# Altium schematic symbol library Supernova Diodes.SchLib: 86 symbols
Pins are listed as number, name and electrical type; pins without a type are passive.

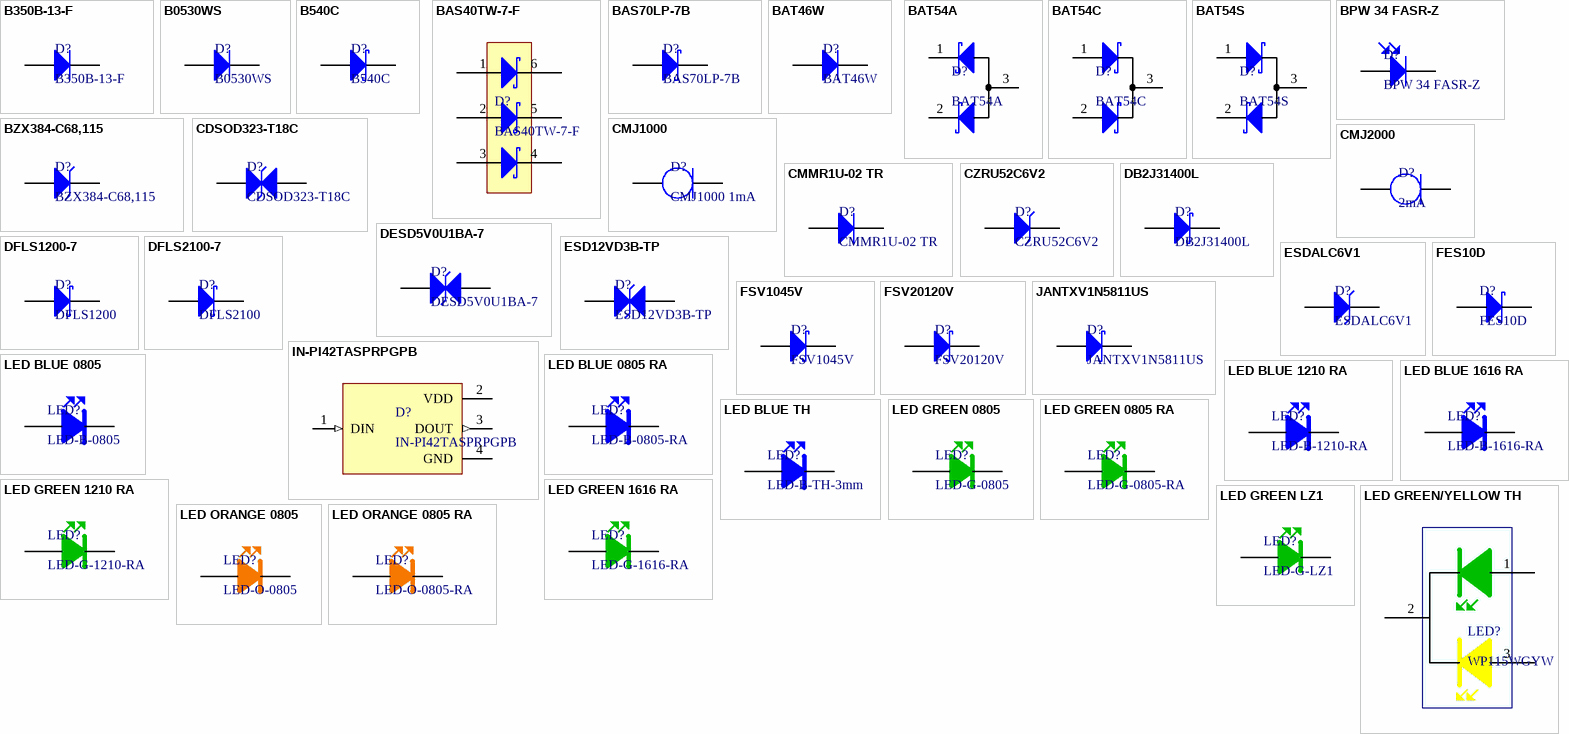
[diagram p0: symbols B350B-13-F to LED ORANGE 0805 RA]

## B350B-13-F
designator D?
Diode 50V 3A; Mass_g: 0.101; Supplier 1: Digi-Key; Supplier Part Number 1: B350B-FDICT-ND; Supplier 2: Mouser; Supplier Part Number 2: 621-B350B-F
footprint SMB (Molded Diode, 2-Leads, Body 4.31x3.62mm, IPC Medium Density)
footprint MELF-JANTX (MELF Diode, 2-Leads, Body 5.40x3.62mm, IPC Medium Density)
pins: 1 K, 2 A

## B0530WS
designator D?
Diode 30V 200mA; Supplier 1: Digi-Key; Supplier Part Number 1: B0530WSRRGCT-ND; Supplier 2: Digi-Key; Supplier Part Number 2: 1727-5197-1-ND; Supplier 3: Digi-Key; Supplier Part Number 3: 1727-3866-1-ND
footprint SOD323 (Footprint not found)
pins: 1 K, 2 A

## B540C
designator D?
Diode 40V 5A; Supplier 1: Digi-Key; Supplier Part Number 1: B540C-FDICT-ND; Supplier 2: Digi-Key; Supplier Part Number 2: SK54L-TPMSCT-ND
footprint SMC (Molded Diode, 2-Leads, Body 6.86x5.91mm, IPC Medium Density)
pins: 1 K, 2 A

## BAS40TW-7-F
designator D?
Diode Triple 200mA 40V; Supplier 1: Digi-Key; Supplier 2: Digi-Key; Supplier Part Number 2: BAS40TW-TPCT-ND; Supplier Part Number 1: BAS40TW-FDICT-ND
footprint SOT363 (TSOP, 6-Leads, Body 2.00x1.25mm, Pitch 0.65mm, IPC Medium Density)
pins: 1, 2 A, 3 A, 4 K, 5, 6 K

## BAS70LP-7B
designator D?
Diode 70V 70mA; Supplier 1: Digi-Key; Supplier 2: Mouser; Supplier Part Number 1: BAS70LP-7BDICT-ND; Supplier Part Number 2: 621-BAS70LP-7B
footprint SOD882 (Footprint not found)
pins: 1 K, 2 A

## BAT46W
designator D?
Diode 100V 150mA; Supplier 1: Avnet; Supplier Part Number 1: BAT46WQ-7-F; Supplier 2: Arrow Electronics; Supplier Part Number 2: BAT46W-E3-08
footprint SOD123
pins: 1 K, 2 A

## BAT54A
designator D?
Diode Pair common anode; Supplier 1: Digi-Key; Supplier Part Number 1: 497-7161-1-ND; Supplier 2: Digi-Key; Supplier Part Number 2: 1655-1411-1-ND
footprint SOT23-3 (Footprint not found)
pins: 1 A, 2 A, 3 K

## BAT54C
designator D?
Diode Pair common cathode; Supplier 1: Digi-Key; Supplier Part Number 1: 497-3786-1-ND; Supplier 2: Digi-Key; Supplier Part Number 2: BAT54CQ-7-FDICT-ND; Supplier 3: Mouser; Supplier Part Number 3: 621-BAT54CQ-7-F; Supplier 4: Mouser; Supplier Part Number 4: 863-SBAT54CLT1G; Supplier 5: Digi-Key; Supplier Part Number 5: SBAT54CLT1GOSCT-ND; Supplier 6: Mouser; Supplier Part Number 6: 78-BAT54C-HE3-08; Supplier 7: Digi-Key; Supplier Part Number 7: 112-BAT54C-HE3-08CT-ND
footprint SOT23-3 (Footprint not found)
pins: 1 A, 2 A, 3 K

## BAT54S
designator D?
Diode Pair series; Supplier 1: Digi-Key; Supplier 2: Digi-Key; Supplier Part Number 1: 497-2522-1-ND; Supplier Part Number 2: 497-14153-1-ND
footprint SOT23-3 (Footprint not found)
pins: 1 A, 2 A, 3 K

## BPW 34 FASR-Z
designator D?
Diode PIN photodiode; Supplier 1: Digi-Key; Supplier 2: Mouser; Supplier Part Number 1: 475-1346-1-ND; Supplier Part Number 2: 720-BPW34FASR-Z
footprint BPW 34 (TSOP, 2-Leads, Body 3.85x4.40mm, Pitch 2.54mm, IPC Medium Density)
pins: 1 K, 2 A

## BZX384-C68,115
designator D?
Diode 68V zener; Mass_g: 0.00465; Supplier 1: Digi-Key; Supplier Part Number 1: 1727-1649-1-ND; Supplier 2: Digi-Key; Supplier Part Number 2: 1727-3666-1-ND; Supplier 3: Digi-Key; Supplier Part Number 3: 1727-SZMM3Z68VT1GXCT-ND; Supplier 4: Newark; Supplier Part Number 4: 37K9902; Supplier 5: Mouser; Supplier Part Number 5: 771-BZX384-C68T/R; Supplier 6: Newark; Supplier Part Number 6: 38AJ4324
footprint SOD323 (TSOP, 2-Leads, Body 1.30x1.75mm, Pitch 0.65mm, IPC Medium Density)
pins: 1 K, 2 A

## CDSOD323-T18C
designator D?
Diode 18V TVS; Supplier 1: Digi-Key; Supplier Part Number 1: CDSOD323-T18CT-ND; Supplier 2: Digi-Key; Supplier Part Number 2: F10390CT-ND
footprint SOD323 (Footprint not found)
pins: 1 K, 2 A

## CMJ1000
designator D?, comment CMJ1000 1mA
Diode 1.1mA Constant Current; Mass_g: 0.00834; Supplier 1: Digi-Key; Supplier Part Number 1: 1514-CMJ1000TRPBFREECT-ND; Supplier 2: Mouser; Supplier Part Number 2: 610-CMJ1000TR
footprint SOD123
pins: 1 K, 2 A

## CMJ2000
designator D?, comment 2mA
Diode 2mA Constant Current; Supplier 1: Digi-Key; Supplier Part Number 1: CMJ2000CT-ND; Supplier 2: Mouser; Supplier Part Number 2: 610-CMJ2000TR
footprint SOD123 (Footprint not found)
pins: 1 K, 2 A

## CMMR1U-02 TR
designator D?
Diode 40V 5A; Supplier 1: Digi-Key; Supplier Part Number 1: CMMR1U-02CT-ND; Supplier 2: Digi-Key; Supplier 3: Digi-Key; Supplier Part Number 2: UFM15PL-TPMSCT-ND; Supplier Part Number 3: UFM13PL-TPMSCT-ND
footprint SOD123 (Footprint not found)
pins: 1 K, 2 A

## CZRU52C6V2
designator D?
Diode 6.2V zener; Supplier 1: Digi-Key; Supplier 2: Digi-Key; Supplier Part Number 1: 641-1031-1-ND; Supplier Part Number 2: 641-2098-1-ND
footprint 0603 DIODE (Molded Diode, 2-Leads, Body 1.70x0.90mm, IPC Medium Density)
pins: 1 K, 2 A

## DB2J31400L
designator D?
Diode 30V 30mA; Supplier 1: Digi-Key; Supplier Part Number 1: DB2J31400LCT-ND; Supplier 2: Digi-Key; Supplier Part Number 2: DB2J31000LCT-ND
footprint SOD323 (Footprint not found)
pins: 1 K, 2 A

## DESD5V0U1BA-7
designator D?
Diode 7V TVS; Supplier 1: Digi-Key; Supplier Part Number 1: DESD5V0U1BA-7DICT-ND; Supplier 2: Mouser; Supplier Part Number 2: 621-DESD5V0U1BA-7
footprint SOD323 (Footprint not found)
pins: 1 K, 2 A

## DFLS1200-7
designator D?, comment DFLS1200
Diode 200V 1A; Mass_g: 0.018; Supplier 1: Digi-Key; Supplier Part Number 1: DFLS1200Q-7DICT-ND; Supplier 2: Digi-Key; Supplier Part Number 2: DFLS1200DICT-ND; Supplier 3: Newark; Supplier Part Number 3: 07AH3710; Supplier 4: Digi-Key; Supplier Part Number 4: SBR1U200P1-7DICT-ND
footprint POWERDI123 (TSOP, 2-Leads, Body 1.70x2.70mm, Pitch 0.65mm, IPC Low Density)
pins: 1 K, 2 A

## DFLS2100-7
designator D?, comment DFLS2100
Diode 100V 2A; Supplier 1: Digi-Key; Supplier Part Number 1: DFLS2100-7DICT-ND; Supplier 2: Digi-Key; Supplier Part Number 2: DFLS2100Q-7DICT-ND; Supplier 3: RSComponents; Supplier Part Number 3: 8222441
footprint POWERDI123 (TSOP, 2-Leads, Body 1.70x2.70mm, Pitch 0.65mm, IPC Low Density)
pins: 1 K, 2 A

## ESD12VD3B-TP
designator D?
Diode 12V TVS; Mass_g: 0.00465; Supplier 1: Digi-Key; Supplier Part Number 1: ESD12VD3B-TPMSCT-ND; Supplier 2: Digi-Key; Supplier Part Number 2: SD12T1GOSCT-ND
footprint SOD323 (Footprint not found)
pins: 1 K, 2 A

## ESDALC6V1
designator D?
Diode 6.1V zener; Supplier 1: Digi-Key; Supplier Part Number 1: 497-5238-1-ND; Supplier 2: Digi-Key; Supplier Part Number 2: 497-10561-1-ND
footprint SOD882 (Footprint not found)
pins: 1 K, 2 A

## FES10D
designator D?
Diode 200V 10A; Mass_g: 0.1136; Supplier 1: Digi-Key; Supplier Part Number 1: FES10DCT-ND; Supplier 2: Digi-Key; Supplier Part Number 2: 353-MBR10U200HE3-TPCT-ND
footprint TO-277A
pins: 1 A, 3 K

## FSV1045V
designator D?
Diode 10A; Supplier 1: Digi-Key; Supplier Part Number 1: FSV1045VCT-ND; Supplier 2: Digi-Key; Supplier Part Number 2: MBR10U45L-TPMSCT-ND
footprint TO-277A (Footprint not found)
pins: 1 A, 3 K

## FSV20120V
designator D?
Diode 20A 120V; Supplier 1: Digi-Key; Supplier Part Number 1: FSV20120VCT-ND; Supplier 2: Mouser; Supplier Part Number 2: 512-FSV20120V
footprint TO-277A (Footprint not found)
pins: 1 A, 3 K

## IN-PI42TASPRPGPB
designator D?
Addressable Lighting series 1 LED Discrete Serial (Shift Register) Red, Green, Blue (RGB) 4.00mm L x 1.50mm W; MF: Inolux; SnapEDA_Link: https://www.snapeda.com/parts/IN-PI42TASPRPGPB/Inolux/view-part/?ref=snap; Value: *; Purchase-URL: https://pricing.snapeda.com/search/part/IN-PI42TASPRPGPB/?ref=eda; Check_prices: https://www.snapeda.com/parts/IN-PI42TASPRPGPB/Inolux/view-part/?ref=eda; Availability: In Stock; Price: None; MP: IN-PI42TASPRPGPB; Package: Inolux; Supplier 1: Digi-Key; Supplier Part Number 1: 1830-1206-1-ND; Supplier 2: Mouser; Supplier Part Number 2: 743-IN-PI42TASPRPGPB
footprint IN-PI42TASPRPGPB
pins: 1 DIN (in), 2 VDD (power), 3 DOUT (out), 4 GND (power)

## JANTXV1N5811US
designator D?
Diode 150V 3A; Supplier 1: Arrow Electronics; Supplier Part Number 1: JANTXV1N5811US; Supplier 2: Avnet; Supplier Part Number 2: JANTXV1N5811US
footprint MELF-JANTX (MELF Diode, 2-Leads, Body 5.40x3.62mm, IPC Medium Density)
pins: 1 K, 2 A

## LED BLUE 0805
designator LED?, comment LED-B-0805
LED Blue 0805; Mass_g: 0.034; Supplier 1: Digi-Key; Supplier Part Number 1: 160-1645-1-ND; Supplier 2: Digi-Key; Supplier Part Number 2: 754-1505-1-ND
footprint 0805 LED-BLUE (Footprint not found)
pins: 1, 2

## LED BLUE 0805 RA
designator LED?, comment LED-B-0805-RA
LED Blue 0805 RA; Supplier 1: Digi-Key; Supplier 2: Mouser; Supplier Part Number 1: 754-1923-1-ND; Supplier Part Number 2: 604-APA2107LVBCD
footprint 0805 LED-BLUE-RA (Footprint not found)
pins: 1, 2

## LED BLUE 1210 RA
designator LED?, comment LED-B-1210-RA
LED Blue 1210 RA; Supplier 1: Digi-Key; Supplier 2: Mouser; Supplier Part Number 1: 754-1784-1-ND; Supplier Part Number 2: 604-APDA3020VBCD
footprint 1210 LED-BLUE-RA (Footprint not found)
pins: 1, 2

## LED BLUE 1616 RA
designator LED?, comment LED-B-1616-RA
LED Blue 1616 RA; Supplier 1: Digi-Key; Supplier 2: Mouser; Supplier Part Number 1: 754-1512-1-ND; Supplier Part Number 2: 604-AA4040QBS/D
footprint AA4040-Blue (Footprint not found)
pins: 1, 2

## LED BLUE TH
designator LED?, comment LED-B-TH-3mm
LED Blue TH 3mm; Supplier 1: Digi-Key; Supplier Part Number 1: 67-1748-ND; Supplier 2: Digi-Key; Supplier Part Number 2: 1516-1351-ND
footprint 3mm TH BLUE LED
pins: 1, 2

## LED GREEN 0805
designator LED?, comment LED-G-0805
LED Green 0805; Mass_g: 0.034; Supplier 1: Digi-Key; Supplier Part Number 1: 160-1414-1-ND; Supplier 2: Digi-Key; Supplier Part Number 2: 160-1426-1-ND; Supplier 3: Mouser; Supplier Part Number 3: 859-LTST-C171KGKT; Supplier 4: Digi-Key; Supplier Part Number 4: 732-4986-1-ND; Supplier 5: Digi-Key; Supplier Part Number 5: 350-2044-1-ND
footprint 0805 LED-GREEN (Footprint not found)
pins: 1, 2

## LED GREEN 0805 RA
designator LED?, comment LED-G-0805-RA
LED Green 0805 RA; Supplier 1: Digi-Key; Supplier 2: Digi-Key; Supplier Part Number 1: 160-1468-1-ND; Supplier Part Number 2: 754-1057-1-ND
footprint 0805 LED-GREEN-RA (Footprint not found)
pins: 1, 2

## LED GREEN 1210 RA
designator LED?, comment LED-G-1210-RA
LED Green 1210 RA; Supplier 1: Digi-Key; Supplier 2: Mouser; Supplier Part Number 1: 754-1929-1-ND; Supplier Part Number 2: 604-APDA3020LZGCK
footprint 1210 LED-GREEN-RA (Footprint not found)
pins: 1, 2

## LED GREEN 1616 RA
designator LED?, comment LED-G-1616-RA
LED Green 1616 RA; Supplier 1: Digi-Key; Supplier 2: Digi-Key; Supplier Part Number 1: 754-1516-1-ND; Supplier Part Number 2: 1497-1250-1-ND
footprint AA4040-Green (Footprint not found)
pins: 1, 2

## LED GREEN LZ1
designator LED?, comment LED-G-LZ1
LED Green lZ1; Supplier 1: Digi-Key; Supplier Part Number 1: 1537-1124-1-ND; Supplier 2: Mouser; Supplier Part Number 2: 897-LZ100G1020000
footprint LZ1 (Footprint not found)
pins: 1, 2, 3 2 hidden to GND

## LED GREEN/YELLOW TH
designator LED?, comment WP115WGYW
LED GREEN/YELLOW TH 3mm DIFFUSE; Supplier 1: Digi-Key; Supplier Part Number 1: 754-1864-ND; Supplier 2: Digi-Key; Supplier Part Number 2: 1497-1028-ND
footprint 3mm TH GREEN/YELLOW LED
pins: 1, 2, 3

## LED ORANGE 0805
designator LED?, comment LED-O-0805
LED Orange 0805; Mass_g: 0.034; Supplier 1: Digi-Key; Supplier Part Number 1: 160-1413-1-ND; Supplier 2: Digi-Key; Supplier Part Number 2: 350-2040-1-ND; Supplier 3: Digi-Key; Supplier Part Number 3: 67-1637-1-ND
footprint 0805 LED-ORANGE (Footprint not found)
pins: 1, 2

## LED ORANGE 0805 RA
designator LED?, comment LED-O-0805-RA
LED Orange 0805 RA; Supplier 1: Digi-Key; Supplier 2: Mouser; Supplier Part Number 1: 754-1921-1-ND; Supplier Part Number 2: 604-APA2107LSECKJ4RV
footprint 0805 LED-ORANGE-RA (Footprint not found)
pins: 1, 2

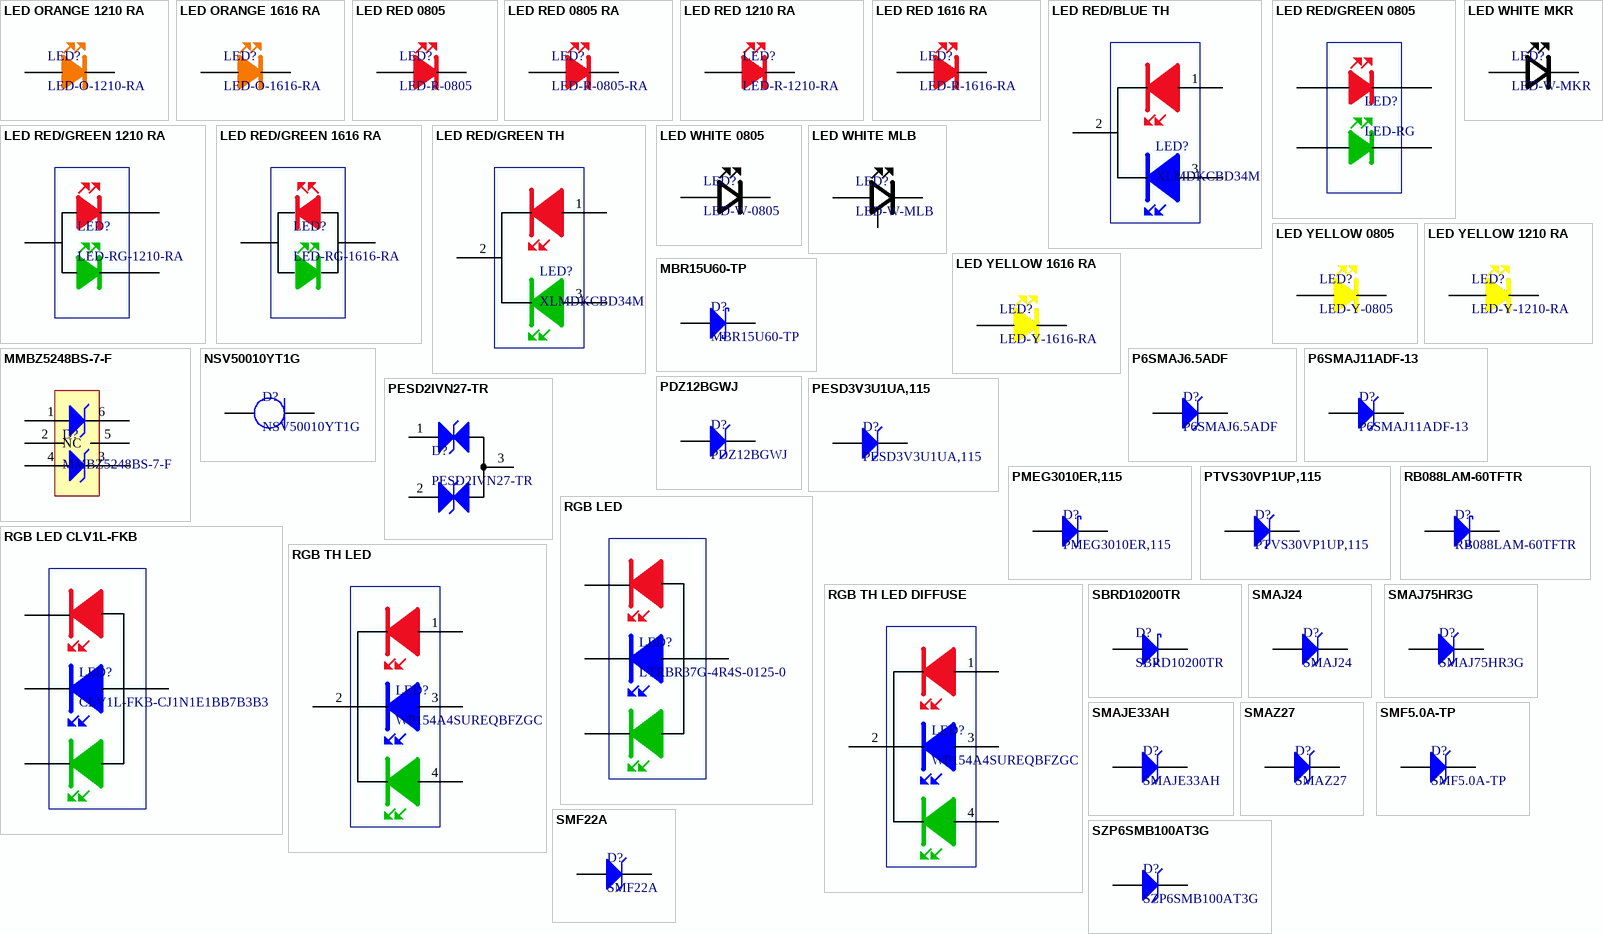
[diagram p1: symbols LED ORANGE 1210 RA to SZP6SMB100AT3G]

## LED ORANGE 1210 RA
designator LED?, comment LED-O-1210-RA
LED Orange 1210 RA; Supplier 1: Digi-Key; Supplier 2: Mouser; Supplier Part Number 1: 754-1926-1-ND; Supplier Part Number 2: 604-APDA3020LSECKJ4F
footprint 1210 LED-ORANGE-RA (Footprint not found)
pins: 1, 2

## LED ORANGE 1616 RA
designator LED?, comment LED-O-1616-RA
LED Orange 1616 RA; Supplier 1: Digi-Key; Supplier 2: Mouser; Supplier Part Number 1: 754-1514-1-ND; Supplier Part Number 2: 604-AA4040SESK
footprint AA4040-Orange (Footprint not found)
pins: 1, 2

## LED RED 0805
designator LED?, comment LED-R-0805
LED Red 0805; Mass_g: 0.034; Supplier 1: Digi-Key; Supplier Part Number 1: 160-1415-1-ND; Supplier 2: Digi-Key; Supplier Part Number 2: 160-1427-1-ND; Supplier 3: Digi-Key; Supplier Part Number 3: 160-1415-2-ND; Supplier 4: Mouser; Supplier Part Number 4: 859-LTST-C170KRKT
footprint 0805 LED-RED (Footprint not found)
pins: 1, 2

## LED RED 0805 RA
designator LED?, comment LED-R-0805-RA
LED Red 0805 RA; Supplier 1: Digi-Key; Supplier 2: Digi-Key; Supplier Part Number 1: 160-1469-1-ND; Supplier Part Number 2: 754-1840-1-ND
footprint 0805 LED-RED-RA (Footprint not found)
pins: 1, 2

## LED RED 1210 RA
designator LED?, comment LED-R-1210-RA
LED Red 1210 RA; Supplier 1: Digi-Key; Supplier 2: Mouser; Supplier Part Number 1: 754-1925-1-ND; Supplier Part Number 2: 604-APDA3020LSECKJ3F
footprint 1210 LED-RED-RA (Footprint not found)
pins: 1, 2

## LED RED 1616 RA
designator LED?, comment LED-R-1616-RA
LED Red 1616 RA; Supplier 1: Digi-Key; Supplier 2: Digi-Key; Supplier Part Number 2: 67-2029-1-ND; Supplier Part Number 1: 754-1519-1-ND
footprint AA4040-Red (Footprint not found)
pins: 1, 2

## LED RED/BLUE TH
designator LED?, comment XLMDKCBD34M
LED RED/BLUE TH 3mm DIFFUSE; Supplier 1: Digi-Key; Supplier Part Number 1: 1497-1307-ND
footprint 3mm TH RED/BLUE LED
pins: 1, 2, 3

## LED RED/GREEN 0805
designator LED?, comment LED-RG
LED Red, Green 0805; Supplier 1: Digi-Key; Supplier Part Number 1: 754-1093-1-ND; Supplier 2: Digi-Key; Supplier Part Number 2: 1497-1182-1-ND
footprint 0805 LED-RED/GREEN
pins: 1, 2, 3, 4

## LED RED/GREEN 1210 RA
designator LED?, comment LED-RG-1210-RA
LED Red/Green 1210 RA; Supplier 1: Digi-Key; Supplier 2: Mouser; Supplier Part Number 1: 754-1581-1-ND; Supplier Part Number 2: 604-PBDA3020SURKCGKC
footprint 1210 LED-RED/GREEN-RA (Chip LED, 2-Leads, Body 2.05x1.25mm, IPC Medium Density)
pins: 1, 2, 3

## LED RED/GREEN 1616 RA
designator LED?, comment LED-RG-1616-RA
LED Red/Green 1616 RA; Supplier 1: Digi-Key; Supplier Part Number 1: 1497-1447-1-ND
footprint AA4040-RED/GREEN
pins: 1, 2

## LED RED/GREEN TH
designator LED?, comment XLMDKCBD34M
LED RED/GREEN TH 3mm DIFFUSE; Supplier 1: Digi-Key; Supplier Part Number 1: 1497-1024-ND; Supplier 2: Digi-Key; Supplier Part Number 2: 67-1327-ND
footprint 3mm TH RED/GREEN LED
pins: 1, 2, 3

## LED WHITE 0805
designator LED?, comment LED-W-0805
LED White 0805; Supplier 1: Mouser; Supplier Part Number 1: 593-LSM0805543V; Supplier 2: Digi-Key; Supplier Part Number 2: 28-LSM0805543VCT-ND; Supplier 3: Mouser; Supplier Part Number 3: 859-LTW-170TK; Supplier 4: Digi-Key; Supplier Part Number 4: 160-1738-1-ND
footprint 0805 LED-WHITE (Chip LED, 2-Leads, Body 2.05x1.25mm, IPC Medium Density)
pins: 1, 2

## LED WHITE MKR
designator LED?, comment LED-W-MKR
LED White MK-R; Supplier 1: Digi-Key; Supplier Part Number 1: MKRAWT-00-0000-0B00J2051CT-ND; Supplier 2: Digi-Key; Supplier Part Number 2: MKRAWT-00-0000-0B00H4051CT-ND
footprint MK-R (Footprint not found)
pins: 1, 2, 3 2 hidden to GND

## LED WHITE MLB
designator LED?, comment LED-W-MLB
LED White ML-B; Supplier 1: Digi-Key; Supplier 2: Digi-Key; Supplier Part Number 1: MLBAWT-A1-0000-000WE5CT-ND; Supplier Part Number 2: MLBAWT-A1-0000-000WE7CT-ND
footprint ML-B (Footprint not found)
pins: 1, 2, 3 2

## LED YELLOW 0805
designator LED?, comment LED-Y-0805
LED Yellow 0805; Mass_g: 0.034; Supplier 1: Digi-Key; Supplier Part Number 1: 160-1416-1-ND; Supplier 2: Digi-Key; Supplier Part Number 2: 67-2234-1-ND
footprint 0805 LED-YELLOW (Footprint not found)
pins: 1, 2

## LED YELLOW 1210 RA
designator LED?, comment LED-Y-1210-RA
LED Yellow 1210 RA; Supplier 1: Digi-Key; Supplier 2: Mouser; Supplier Part Number 1: 754-1927-1-ND; Supplier Part Number 2: 604-APDA3020LSYCKJ3F
footprint 1210 LED-YELLOW-RA (Footprint not found)
pins: 1, 2

## LED YELLOW 1616 RA
designator LED?, comment LED-Y-1616-RA
LED Yellow 1616 RA; Supplier 1: Digi-Key; Supplier 2: Digi-Key; Supplier Part Number 1: 754-1518-1-ND; Supplier Part Number 2: 1497-1249-1-ND
footprint AA4040-Yellow (Footprint not found)
pins: 1, 2

## MBR15U60-TP
designator D?
Diode 15A; Supplier 1: Digi-Key; Supplier Part Number 1: MBR15U60-TPMSCT-ND; Supplier 2: Digi-Key; Supplier Part Number 2: TSP20U60SS1GCT-ND
footprint TO-277A (Footprint not found)
pins: 1 A, 3 K

## MMBZ5248BS-7-F
designator D?
Diode 18V Dual Zener; Supplier 1: Digi-Key; Supplier Part Number 1: MMBZ5248BS-FDICT-ND; Supplier 2: Mouser; Supplier Part Number 2: 621-MMBZ5248BS-F
footprint SOT363 (TSOP, 6-Leads, Body 2.00x1.25mm, Pitch 0.65mm, IPC Medium Density)
pins: 1, 2 A, 3 K, 4 A, 5 NC, 6 K

## NSV50010YT1G
designator D?
Diode 10mA Constant Current; Supplier 1: Digi-Key; Supplier Part Number 1: NSV50010YT1GOSCT-ND; Supplier 2: Mouser; Supplier Part Number 2: 863-NSV50010YT1G
footprint SOD123 (Footprint not found)
pins: 1 K, 2 A

## P6SMAJ6.5ADF
designator D?
Diode 6.5V TVS; Supplier 1: Digi-Key; Supplier 2: Digi-Key; Supplier 3: Digi-Key; Supplier Part Number 1: P6SMAJ6.5ADFDICT-ND; Supplier Part Number 2: 1727-4450-1-ND; Supplier Part Number 3: F6173CT-ND
footprint SOD128 (Footprint not found)
pins: 1 K, 2 A

## P6SMAJ11ADF-13
designator D?
Diode 11V TVS; Supplier 1: Digi-Key; Supplier 2: Digi-Key; Supplier 3: Digi-Key; Supplier Part Number 1: P6SMAJ11ADF-13DICT-ND; Supplier Part Number 2: 1727-4424-1-ND; Supplier Part Number 3: F5740CT-ND
footprint SOD128 (Footprint not found)
pins: 1 K, 2 A

## PDZ12BGWJ
designator D?
Diode 12V zener; Supplier 1: Digi-Key; Supplier Part Number 1: 1727-7763-1-ND
footprint SOD123 (Footprint not found)
pins: 1 K, 2 A

## PESD2IVN27-TR
designator D?
Diode TVS CAN; Mass_g: 0.0081; Supplier 1: Digi-Key; Supplier Part Number 1: 1727-7812-1-ND; Supplier 2: RSComponents; Supplier Part Number 2: 8290337
footprint SOT23-3 (Footprint not found)
pins: 1 A, 2 A, 3 K

## PESD3V3U1UA,115
designator D?
Diode 3.3V TVS; Supplier 1: Digi-Key; Supplier Part Number 1: 1727-4152-1-ND; Supplier 2: Digi-Key; Supplier 3: Digi-Key; Supplier Part Number 2: UCLAMP3301DCT-ND; Supplier Part Number 3: D1213A-01WS-7DICT-ND
footprint SOD323 (TSOP, 2-Leads, Body 1.30x1.75mm, Pitch 0.65mm, IPC Medium Density)
pins: 1 K, 2 A

## PMEG3010ER,115
designator D?
Diode 30V 1A; Supplier 1: Digi-Key; Supplier 2: Digi-Key; Supplier Part Number 1: MBR130LSFT1GOSCT-ND; Supplier Part Number 2: 1727-5201-1-ND
footprint SOD123 (Footprint not found)
pins: 1 K, 2 A

## PTVS30VP1UP,115
designator D?
Diode 30V TVS; Supplier 1: Digi-Key; Supplier Part Number 1: 1727-4437-1-ND; Supplier 2: Digi-Key; Supplier Part Number 2: VS30VUA1LAMTFCT-ND
footprint SOD128 (Footprint not found)
pins: 1 K, 2 A

## RB088LAM-60TFTR
designator D?
Diode 60V 5A; Supplier 1: Digi-Key; Supplier 2: Digi-Key; Supplier Part Number 1: RB088LAM-60TFCT-ND; Supplier Part Number 2: RB088LAM100TFCT-ND
footprint SOD128 (Footprint not found)
pins: 1 K, 2 A

## RGB LED
designator LED?, comment LTRBR37G-4R4S-0125-0
LED RGB
footprint LTRBR37G4R4S01250
pins: 1, 2, 3, 4

## RGB LED CLV1L-FKB
designator LED?, comment CLV1L-FKB-CJ1N1E1BB7B3B3
LED RGB; Supplier 1: Mouser; Supplier Part Number 1: 941-CLV1LFKBCJ1N1E1B
footprint CLV1L-FKB-CJ1N1E1BB7B3B3
pins: 1, 2, 3, 4

## RGB TH LED
designator LED?, comment WP154A4SUREQBFZGC
LED CLEAR RGB; Supplier 1: Digi-Key; Supplier Part Number 1: 754-1615-ND; Supplier 2: Mouser; Supplier Part Number 2: 604-WP154A4SUREQBFZG
footprint 5mm TH TRIPLE LED
pins: 1, 2, 3, 4

## RGB TH LED DIFFUSE
designator LED?, comment WP154A4SUREQBFZGC
LED DIFFUSED RGB; Supplier 1: Digi-Key; Supplier Part Number 1: 754-1492-ND; Supplier 2: Mouser; Supplier Part Number 2: 604-WP154A4SUREQBFZW
footprint 5mm TH TRIPLE LED
pins: 1, 2, 3, 4

## SBRD10200TR
designator D?
Diode 200V 10A; Supplier 1: Digi-Key; Supplier Part Number 1: 1655-1939-1-ND
footprint DPAK (Footprint not found)
pins: 1 A, 2 K, 3 A

## SMAJ24
designator D?
Diode 24V TVS; Supplier 1: Digi-Key; Supplier Part Number 1: SMAJ24AQ-13-FDICT-ND; Supplier 2: Digi-Key; Supplier Part Number 2: SMAJ24AHR3GCT-ND
footprint SMA (Molded Diode, 2-Leads, Body 4.30x2.60mm, IPC Medium Density)
pins: 1 K, 2 A

## SMAJ75HR3G
designator D?
Diode 75V TVS; Mass_g: 0.064; Supplier 1: Digi-Key; Supplier Part Number 1: SMAJ75HR3GCT-ND; Supplier 2: Digi-Key; Supplier Part Number 2: 18-SZ1SMA75AT3GCT-ND
footprint SMA (Molded Diode, 2-Leads, Body 4.30x2.60mm, IPC Medium Density)
pins: 1 K, 2 A

## SMAJE33AH
designator D?
Diode 33V TVS; Supplier 1: Digi-Key; Supplier Part Number 1: 283-SMAJE33AHCT-ND
footprint SMA (Molded Diode, 2-Leads, Body 4.30x2.60mm, IPC Medium Density)
pins: 1 K, 2 A

## SMAZ27
designator D?
Diode 27V zener; Supplier 1: Digi-Key; Supplier Part Number 1: SMAZ27-FDICT-ND; Supplier 2: Digi-Key; Supplier Part Number 2: 1SMA5935BT3GOSCT-ND
footprint SMA (Molded Diode, 2-Leads, Body 4.30x2.60mm, IPC Medium Density)
pins: 1 K, 2 A

## SMF5.0A-TP
designator D?
Diode 5V TVS; Supplier 1: Digi-Key; Supplier Part Number 1: SMF5.0A-TPMSCT-ND; Supplier 2: Digi-Key; Supplier Part Number 2: F7465CT-ND; Supplier 3: Digi-Key; Supplier Part Number 3: F11655CT-ND
footprint SOD123
pins: 1 K, 2 A

## SMF22A
designator D?
Diode 35.5V zener; Supplier 1: Digi-Key; Supplier Part Number 1: F5822CT-ND; Supplier 2: Digi-Key; Supplier Part Number 2: F7468CT-ND
footprint SOD123 (Footprint not found)
pins: 1 K, 2 A

## SZP6SMB100AT3G
designator D?
Diode 85V TVS; Mass_g: 0.101; Supplier 1: Digi-Key; Supplier Part Number 1: F11603CT-ND; Supplier 2: Digi-Key; Supplier Part Number 2: F10342CT-ND
footprint SMB (Molded Diode, 2-Leads, Body 4.31x3.62mm, IPC Medium Density)
pins: 1 K, 2 A

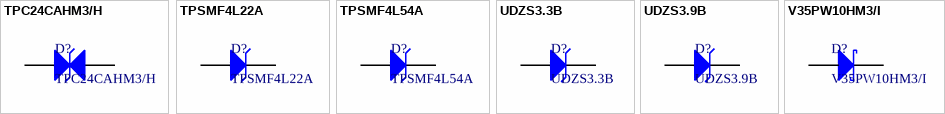
[diagram p2: symbols TPC24CAHM3/H to V35PW10HM3/I]

## TPC24CAHM3/H
designator D?
Diode 20.5V TVS; Supplier 1: Digi-Key; Supplier Part Number 1: TPC24CAHM3/HGICT-ND; Supplier 2: Mouser; Supplier Part Number 2: 78-TPC24CAHM3/H
footprint TO-277A (Footprint not found)
pins: 1 K, 3 A

## TPSMF4L22A
designator D?
Diode 22V TVS; Supplier 1: Digi-Key; Supplier 2: Digi-Key; Supplier Part Number 1: SMF22A-E3-08GICT-ND; Supplier Part Number 2: F7542CT-ND
footprint SOD123 (Footprint not found)
pins: 1 K, 2 A

## TPSMF4L54A
designator D?
Diode 54V zener; Supplier 1: Digi-Key; Supplier Part Number 1: F7552CT-ND; Supplier 2: Digi-Key; Supplier Part Number 2: F5833CT-ND
footprint SOD123 (Footprint not found)
pins: 1 K, 2 A

## UDZS3.3B
designator D?
Diode 3.3V zener; Supplier 1: Digi-Key; Supplier Part Number 1: UDZVTE-173.3BCT-ND; Supplier 2: Digi-Key; Supplier Part Number 2: MM3Z3V3BCT-ND
footprint SOD323 (TSOP, 2-Leads, Body 1.30x1.75mm, Pitch 0.65mm, IPC Medium Density)
pins: 1 K, 2 A

## UDZS3.9B
designator D?
Diode 3.9V zener; Supplier 1: Digi-Key; Supplier Part Number 1: UDZSTE-173.9BCT-ND; Supplier 2: Digi-Key; Supplier Part Number 2: DZ2J039M0LCT-ND
footprint SOD323 (TSOP, 2-Leads, Body 1.30x1.75mm, Pitch 0.65mm, IPC Medium Density)
pins: 1 K, 2 A

## V35PW10HM3/I
designator D?
Diode 100V 35A; Supplier 1: Digi-Key; Supplier 2: Digi-Key; Supplier Part Number 1: V35PW10HM3/IGICT-ND; Supplier Part Number 2: V35PW10-M3/IGICT-ND
footprint DPAK (Footprint not found)
pins: 1 A, 2 K, 3 A